# EAGLE library part ADC08D500 (library Schuyler)
TI ADC08D500 is a dual ADC running at 500MHz for a total of 1 GSPS. Verified=false.
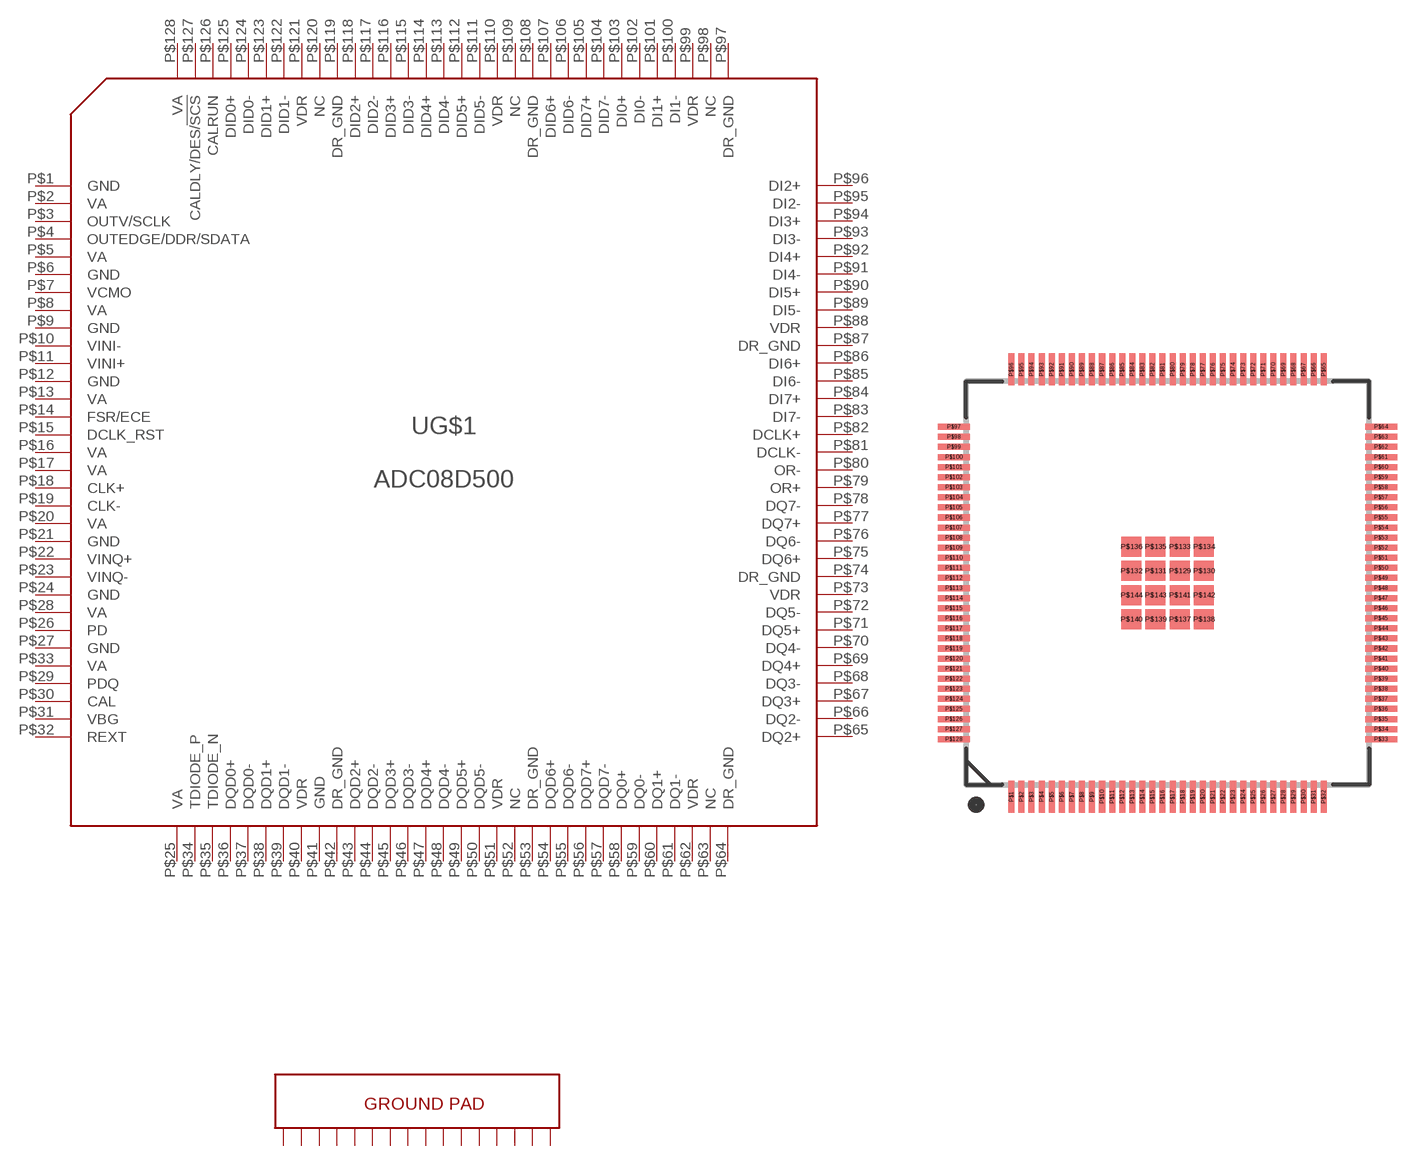
[diagram p11: symbol with the pads of 128HLQFP; footprint 128HLQFP]

Designator prefix U; gates G$1=ADC08D500 G$2=GND_PAD_16

## ADC08D500 (MANPARTNUMBER: ADC08D500CIYB/NOPB; MANUFACTURER: Texas Instruments; PARTNUMBER: ADC08D500CIYB/NOPB-ND; SUPPLIER: DIGIKEY; VERIFIED: FALSE)  [128HLQFP]
P$1  G$1:GND  pas
P$2  G$1:VA  pas
P$3  G$1:OUTV/SCLK  in
P$4  G$1:OUTEDGE/DDR/SDATA  in
P$5  G$1:VA  pas
P$6  G$1:GND  pas
P$7  G$1:VCMO  out
P$8  G$1:VA  pas
P$9  G$1:GND  pas
P$10  G$1:VINI-  in
P$11  G$1:VINI+  in
P$12  G$1:GND  pas
P$13  G$1:VA  pas
P$14  G$1:FSR/ECE  in
P$15  G$1:DCLK_RST  in
P$16  G$1:VA  pas
P$17  G$1:VA  pas
P$18  G$1:CLK+  in
P$19  G$1:CLK-  in
P$20  G$1:VA  pas
P$21  G$1:GND  pas
P$22  G$1:VINQ+  in
P$23  G$1:VINQ-  in
P$24  G$1:GND  pas
P$25  G$1:VA  pas
P$26  G$1:PD  in
P$27  G$1:GND  pas
P$28  G$1:VA  pas
P$29  G$1:PDQ  in
P$30  G$1:CAL  in
P$31  G$1:VBG  out
P$32  G$1:REXT  out
P$33  G$1:VA  pas
P$34  G$1:TDIODE_P
P$35  G$1:TDIODE_N
P$36  G$1:DQD0+  out
P$37  G$1:DQD0-  out
P$38  G$1:DQD1+  out
P$39  G$1:DQD1-  out
P$40  G$1:VDR  pas
P$41  G$1:GND  pas
P$42  G$1:DR_GND  pas
P$43  G$1:DQD2+  out
P$44  G$1:DQD2-  out
P$45  G$1:DQD3+  out
P$46  G$1:DQD3-  out
P$47  G$1:DQD4+  out
P$48  G$1:DQD4-  out
P$49  G$1:DQD5+  out
P$50  G$1:DQD5-  out
P$51  G$1:VDR  pas
P$52  G$1:NC  nc
P$53  G$1:DR_GND  pas
P$54  G$1:DQD6+  out
P$55  G$1:DQD6-  out
P$56  G$1:DQD7+  out
P$57  G$1:DQD7-  out
P$58  G$1:DQ0+  out
P$59  G$1:DQ0-  out
P$60  G$1:DQ1+  out
P$61  G$1:DQ1-  out
P$62  G$1:VDR  pas
P$63  G$1:NC  nc
P$64  G$1:DR_GND  pas
P$65  G$1:DQ2+  out
P$66  G$1:DQ2-  out
P$67  G$1:DQ3+  out
P$68  G$1:DQ3-  out
P$69  G$1:DQ4+  out
P$70  G$1:DQ4-  out
P$71  G$1:DQ5+  out
P$72  G$1:DQ5-  out
P$73  G$1:VDR  pas
P$74  G$1:DR_GND  pas
P$75  G$1:DQ6+  out
P$76  G$1:DQ6-  out
P$77  G$1:DQ7+  out
P$78  G$1:DQ7-  out
P$79  G$1:OR+  out
P$80  G$1:OR-  out
P$81  G$1:DCLK-  out
P$82  G$1:DCLK+  out
P$83  G$1:DI7-  out
P$84  G$1:DI7+  out
P$85  G$1:DI6-  out
P$86  G$1:DI6+  out
P$87  G$1:DR_GND  pas
P$88  G$1:VDR  pas
P$89  G$1:DI5-  out
P$90  G$1:DI5+  out
P$91  G$1:DI4-  out
P$92  G$1:DI4+  out
P$93  G$1:DI3-  out
P$94  G$1:DI3+  out
P$95  G$1:DI2-  out
P$96  G$1:DI2+  out
P$97  G$1:DR_GND  pas
P$98  G$1:NC  nc
P$99  G$1:VDR  pas
P$100  G$1:DI1-  out
P$101  G$1:DI1+  out
P$102  G$1:DI0-  out
P$103  G$1:DI0+  out
P$104  G$1:DID7-  out
P$105  G$1:DID7+  out
P$106  G$1:DID6-  out
P$107  G$1:DID6+  out
P$108  G$1:DR_GND  pas
P$109  G$1:NC  nc
P$110  G$1:VDR  pas
P$111  G$1:DID5-  out
P$112  G$1:DID5+  out
P$113  G$1:DID4-  out
P$114  G$1:DID4+  out
P$115  G$1:DID3-  out
P$116  G$1:DID3+  out
P$117  G$1:DID2-  out
P$118  G$1:DID2+  out
P$119  G$1:DR_GND  pas
P$120  G$1:NC  nc
P$121  G$1:VDR  pas
P$122  G$1:DID1-  out
P$123  G$1:DID1+  out
P$124  G$1:DID0-  out
P$125  G$1:DID0+  out
P$126  G$1:CALRUN  out
P$127  G$1:CALDLY/DES/!SCS  in
P$128  G$1:VA  pas
P$129  G$2:GND  pwr
P$130  G$2:GND  pwr
P$131  G$2:GND  pwr
P$132  G$2:GND  pwr
P$133  G$2:GND  pwr
P$134  G$2:GND  pwr
P$135  G$2:GND  pwr
P$136  G$2:GND  pwr
P$137  G$2:GND  pwr
P$138  G$2:GND  pwr
P$139  G$2:GND  pwr
P$140  G$2:GND  pwr
P$141  G$2:GND  pwr
P$142  G$2:GND  pwr
P$143  G$2:GND  pwr
P$144  G$2:GND  pwr

## Footprint 128HLQFP (pad centres in mm)
Land Pattern for 128HLQFP taken from TI Datasheet for ADC08D500. Verified=False.
smd 0.3 x 1.6: P$1 -7.75,-10.6; P$2 -7.25,-10.6; P$3 -6.75,-10.6; P$4 -6.25,-10.6; P$5 -5.75,-10.6; P$6 -5.25,-10.6; P$7 -4.75,-10.6; P$8 -4.25,-10.6; P$9 -3.75,-10.6; P$10 -3.25,-10.6; P$11 -2.75,-10.6; P$12 -2.25,-10.6; P$13 -1.75,-10.6; P$14 -1.25,-10.6; P$15 -0.75,-10.6; P$16 -0.25,-10.6; P$17 0.25,-10.6; P$18 0.75,-10.6; P$19 1.25,-10.6; P$20 1.75,-10.6; P$21 2.25,-10.6; P$22 2.75,-10.6; P$23 3.25,-10.6; P$24 3.75,-10.6; P$25 4.25,-10.6; P$26 4.75,-10.6; P$27 5.25,-10.6; P$28 5.75,-10.6; P$29 6.25,-10.6; P$30 6.75,-10.6; P$31 7.25,-10.6; P$32 7.75,-10.6; P$65 7.75,10.6; P$66 7.25,10.6; P$67 6.75,10.6; P$68 6.25,10.6; P$69 5.75,10.6; P$70 5.25,10.6; P$71 4.75,10.6; P$72 4.25,10.6; P$73 3.75,10.6; P$74 3.25,10.6; P$75 2.75,10.6; P$76 2.25,10.6; P$77 1.75,10.6; P$78 1.25,10.6; P$79 0.75,10.6; P$80 0.25,10.6; P$81 -0.25,10.6; P$82 -0.75,10.6; P$83 -1.25,10.6; P$84 -1.75,10.6; P$85 -2.25,10.6; P$86 -2.75,10.6; P$87 -3.25,10.6; P$88 -3.75,10.6; P$89 -4.25,10.6; P$90 -4.75,10.6; P$91 -5.25,10.6; P$92 -5.75,10.6; P$93 -6.25,10.6; P$94 -6.75,10.6; P$95 -7.25,10.6; P$96 -7.75,10.6
smd 1.6 x 0.3: P$33 10.6,-7.75; P$34 10.6,-7.25; P$35 10.6,-6.75; P$36 10.6,-6.25; P$37 10.6,-5.75; P$38 10.6,-5.25; P$39 10.6,-4.75; P$40 10.6,-4.25; P$41 10.6,-3.75; P$42 10.6,-3.25; P$43 10.6,-2.75; P$44 10.6,-2.25; P$45 10.6,-1.75; P$46 10.6,-1.25; P$47 10.6,-0.75; P$48 10.6,-0.25; P$49 10.6,0.25; P$50 10.6,0.75; P$51 10.6,1.25; P$52 10.6,1.75; P$53 10.6,2.25; P$54 10.6,2.75; P$55 10.6,3.25; P$56 10.6,3.75; P$57 10.6,4.25; P$58 10.6,4.75; P$59 10.6,5.25; P$60 10.6,5.75; P$61 10.6,6.25; P$62 10.6,6.75; P$63 10.6,7.25; P$64 10.6,7.75; P$97 -10.6,7.75; P$98 -10.6,7.25; P$99 -10.6,6.75; P$100 -10.6,6.25; P$101 -10.6,5.75; P$102 -10.6,5.25; P$103 -10.6,4.75; P$104 -10.6,4.25; P$105 -10.6,3.75; P$106 -10.6,3.25; P$107 -10.6,2.75; P$108 -10.6,2.25; P$109 -10.6,1.75; P$110 -10.6,1.25; P$111 -10.6,0.75; P$112 -10.6,0.25; P$113 -10.6,-0.25; P$114 -10.6,-0.75; P$115 -10.6,-1.25; P$116 -10.6,-1.75; P$117 -10.6,-2.25; P$118 -10.6,-2.75; P$119 -10.6,-3.25; P$120 -10.6,-3.75; P$121 -10.6,-4.25; P$122 -10.6,-4.75; P$123 -10.6,-5.25; P$124 -10.6,-5.75; P$125 -10.6,-6.25; P$126 -10.6,-6.75; P$127 -10.6,-7.25; P$128 -10.6,-7.75
smd 1 x 1: P$129 0.6,0.6; P$130 1.8,0.6; P$131 -0.6,0.6; P$132 -1.8,0.6; P$133 0.6,1.8; P$134 1.8,1.8; P$135 -0.6,1.8; P$136 -1.8,1.8; P$137 0.6,-1.8; P$138 1.8,-1.8; P$139 -0.6,-1.8; P$140 -1.8,-1.8; P$141 0.6,-0.6; P$142 1.8,-0.6; P$143 -0.6,-0.6; P$144 -1.8,-0.6